# EAGLE library part LTD-2701JD (library LTD-2701JD)
LED Displays & Accessories 2 Digit, Red Low Current Source: Datasheet <https://www.arrow.com/en/products/ltd-2701jd/lite-on-technology>
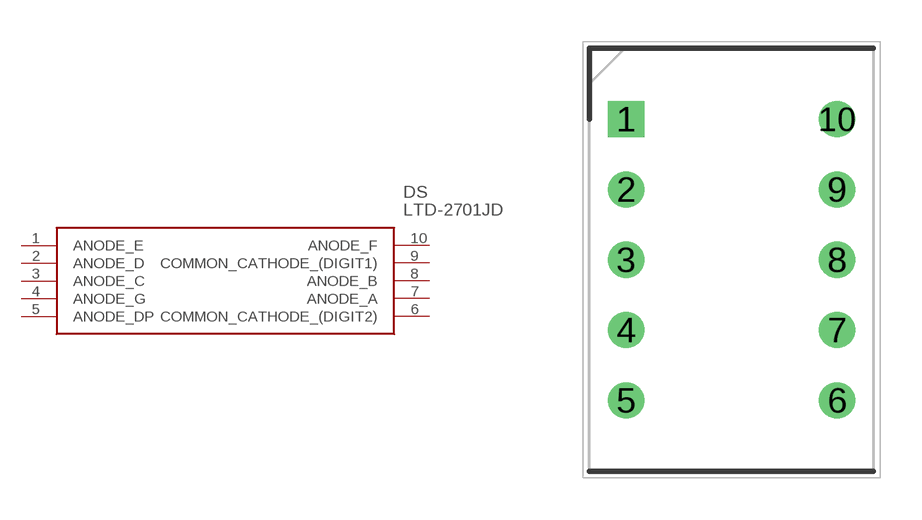
[diagram p0: symbol with the pads of DIPS762W50P254L1502H635Q10N; footprint DIPS762W50P254L1502H635Q10N]

Designator prefix DS

## LTD-2701JD (Arrow_Part_Number: LTD-2701JD; Arrow_Price-Stock: https://www.arrow.com/en/products/ltd-2701jd/lite-on-technology?region=nac; Description: LED Displays & Accessories 2 Digit, Red Low Current; Height: 6.35mm; Manufacturer_Name: Lite-On; Manufacturer_Part_Number: LTD-2701JD; Mouser_Part_Number: 859-LTD-2701JD; Mouser_Price-Stock: https://www.mouser.co.uk/ProductDetail/Lite-On/LTD-2701JD?qs=gnaPJ2cis73Qw6SXUhlNlw%3D%3D)  [DIPS762W50P254L1502H635Q10N]
1  ANODE_E
2  ANODE_D
3  ANODE_C
4  ANODE_G
5  ANODE_DP
6  COMMON_CATHODE_(DIGIT2)
7  ANODE_A
8  ANODE_B
9  COMMON_CATHODE_(DIGIT1)
10  ANODE_F

## Footprint DIPS762W50P254L1502H635Q10N (pad centres in mm)
LTD-2701JD
drill 0.8 pad 1.2 square: 1 0,0
drill 0.8 pad 1.2: 2 0,-2.54; 3 0,-5.08; 4 0,-7.62; 5 0,-10.16; 6 7.62,-10.16; 7 7.62,-7.62; 8 7.62,-5.08; 9 7.62,-2.54; 10 7.62,0